# Altium footprint library Bluetooth.PcbLib: 1 footprints
Each footprint in its own frame and in the unit in brackets; x right, y up, seen from the top. Pads: shape width x height; smd on the part's side, far side on the other; paste and mask are expansions set on the pad; w line width, h text height; cw(c..) or ccw(c..) is an arc to the next point about the centre after c.
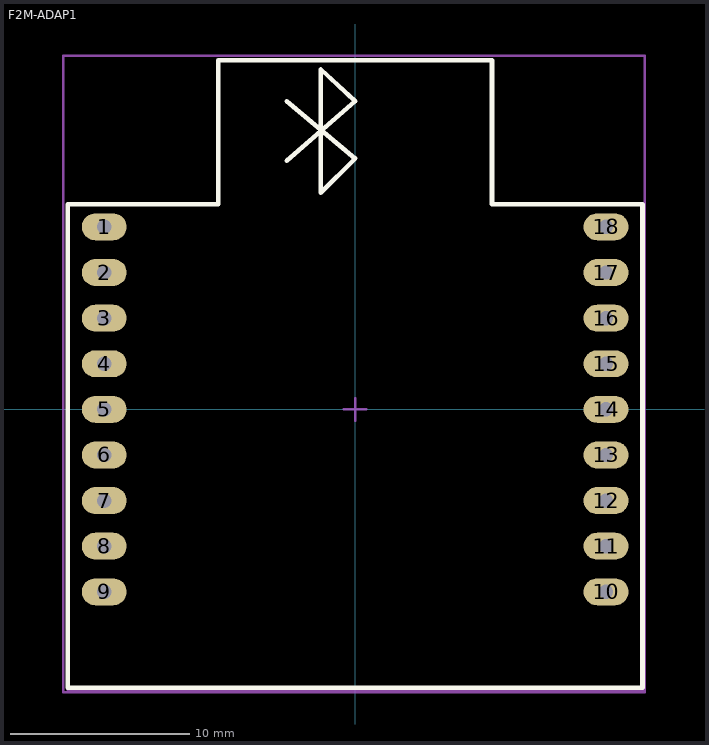
[diagram p0: the footprint, top view; thin cyan lines are the x and y axes]

## F2M-ADAP1 [mm]
height 13
pads (18):
  oval 2.5x1.5 hole 0.8: 1(-13.97,10.16) 2(-13.97,7.62) 3(-13.97,5.08) 4(-13.97,2.54) 5(-13.97,0) 6(-13.97,-2.54) 7(-13.97,-5.08) 8(-13.97,-7.62) 9(-13.97,-10.16) 10(13.97,-10.16) 11(13.97,-7.62) 12(13.97,-5.08) 13(13.97,-2.54) 14(13.97,0) 15(13.97,2.54) 16(13.97,5.08) 17(13.97,7.62) 18(13.97,10.16)
Top Overlay:
  lines w0.254: -3.81,13.843 0,17.145 -1.905,18.923 -1.905,17.209 -1.905,13.779 -1.905,12.065 0,13.97 -3.81,17.145 ; -16.002,-15.494 16.002,-15.494 16.002,11.43 7.62,11.43 7.62,19.431 -7.62,19.431 -7.62,11.43 -16.002,11.43 -16.002,-15.494
Mechanical 13:
  lines w0.2: -16,-15.57 16,-15.57 16,11.43 7.62,11.43 7.62,19.43 -7.62,19.43 -7.62,11.43 -16,11.43 -16,-15.57
Mechanical 15:
  lines w0.127: -0.635,0 0.635,0 ; 0,-0.635 0,0.635 ; -16.256,-15.748 16.129,-15.748 16.129,19.685 -16.256,19.685 -16.256,-15.748
Mechanical 17:
  text ".Designator" at -6.985,-5.715 h1.52
3D body: height 12, standoff 0, extent -14.605,-11.43 -13.335,11.43
3D body: height 12, standoff 0, extent 13.335,-11.43 14.605,11.43
3D body: height 13, standoff 12, extent -16,-15.569 16,19.431